# Altium schematic symbol library ESP-01.SchLib: 1 symbol
Pins are listed as number, name and electrical type; pins without a type are passive.

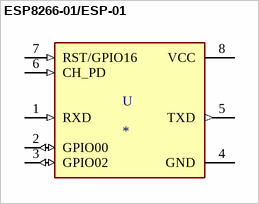
[diagram p0: symbol ESP8266-01/ESP-01]

## ESP8266-01/ESP-01
designator U
ESP-01 wifi module; MP: ESP8266-01/ESP-01; MF: AI-Thinker; Package: None; Availability: Unavailable; Value: *; SnapEDA_Link: https://www.snapeda.com/parts/ESP8266-01/ESP-01/AI-Thinker/view-part/106413/?ref=snap; Price: None
footprint ESP-01
pins: 1 RXD (in), 2 GPIO00 (io), 3 GPIO02 (io), 4 GND (power), 5 TXD (out), 6 CH_PD (in), 7 RST/GPIO16 (in), 8 VCC (power)